# Altium schematic symbol library axsem_v4-24.SCHLIB: 23 symbols
Pins are listed as number, name and electrical type; pins without a type are passive.

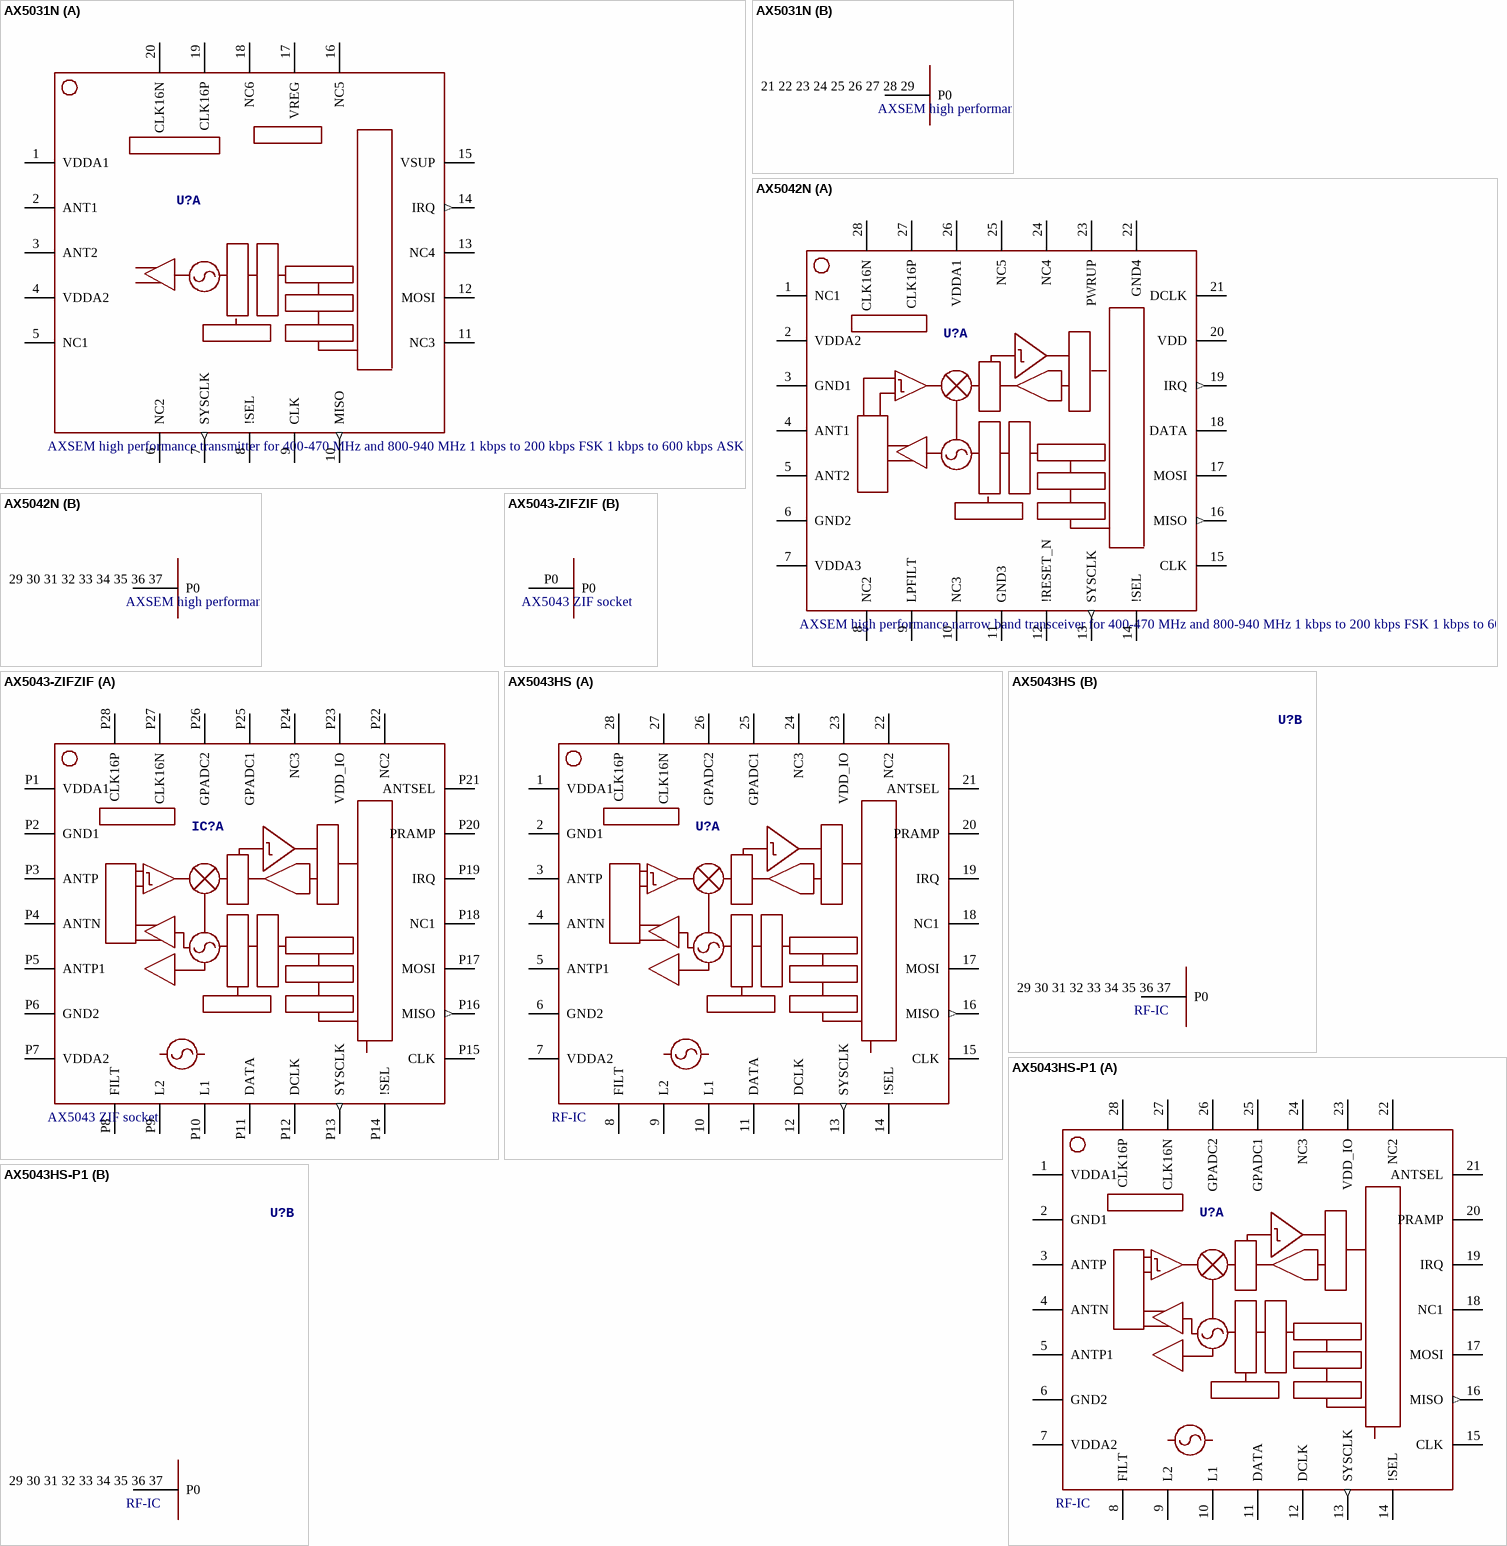
[diagram p0: symbols AX5031N to AX5043HS-P1]

## AX5031N
designator U?, comment AXSEM high performance transmitter for 400-470 MHz and 800-940 MHz 1 kbps to 200 kbps FSK 1 kbps to 600 kbps ASK & PSK 14 dBm Pout @ 868 MHz 16 dBm Pout @ 433 MHz Wire mode Raw mode HDLC mode 256 bit FIFO
footprint QFN20
part A pins: 1 VDDA1 (power), 2 ANT1, 3 ANT2, 4 VDDA2 (power), 5 NC1, 6 NC2, 7 SYSCLK (out), 8 !SEL, 9 CLK, 10 MISO (out), 11 NC3, 12 MOSI, 13 NC4, 14 IRQ (out), 15 VSUP (power), 16 NC5, 17 VREG (power), 18 NC6, 19 CLK16P, 20 CLK16N
part B pins: 21 22 23 24 25 26 27 28 29 P0 (power)

## AX5042N
designator U?, comment AXSEM high performance narrow band transceiver for 400-470 MHz and 800-940 MHz 1 kbps to 200 kbps FSK 1 kbps to 600 kbps ASK & PSK 10 dBm Pout @ 868 MHz 12 dBm Pout @ 433 MHz Wire mode Raw mode HDLC mode 24 bit FIFO
footprint QFN28
part A pins: 1 NC1, 2 VDDA2 (power), 3 GND1 (power), 4 ANT1, 5 ANT2, 6 GND2 (power), 7 VDDA3 (power), 8 NC2, 9 LPFILT, 10 NC3, 11 GND3 (power), 12 !RESET_N, 13 SYSCLK (out), 14 !SEL, 15 CLK, 16 MISO (out), 17 MOSI, 18 DATA, 19 IRQ (out), 20 VDD (power), 21 DCLK, 22 GND4 (power), 23 PWRUP, 24 NC4, 25 NC5, 26 VDDA1 (power), 27 CLK16P, 28 CLK16N
part B pins: 29 30 31 32 33 34 35 36 37 P0 (power)

## AX5043-ZIFZIF
designator IC?, comment AX5043 ZIF socket
footprint QFN28-ZIF
part A pins: P1 VDDA1 (power), P2 GND1 (power), P3 ANTP, P4 ANTN, P5 ANTP1, P6 GND2 (power), P7 VDDA2 (power), P8 FILT, P9 L2, P10 L1, P11 DATA, P12 DCLK, P13 SYSCLK (out), P14 !SEL, P15 CLK, P16 MISO (out), P17 MOSI, P18 NC1, P19 IRQ, P20 PRAMP, P21 ANTSEL, P22 NC2, P23 VDD_IO (power), P24 NC3, P25 GPADC1, P26 GPADC2 (power), P27 CLK16N, P28 CLK16P
part B pins: P0 (power)

## AX5043HS
designator U?, comment RF-IC
footprint QFN28-H
part A pins: 1 VDDA1 (power), 2 GND1 (power), 3 ANTP, 4 ANTN, 5 ANTP1, 6 GND2 (power), 7 VDDA2 (power), 8 FILT, 9 L2, 10 L1, 11 DATA, 12 DCLK, 13 SYSCLK (out), 14 !SEL, 15 CLK, 16 MISO (out), 17 MOSI, 18 NC1, 19 IRQ, 20 PRAMP, 21 ANTSEL, 22 NC2, 23 VDD_IO (power), 24 NC3, 25 GPADC1, 26 GPADC2 (power), 27 CLK16N, 28 CLK16P
part B pins: 29 30 31 32 33 34 35 36 37 P0 (power)

## AX5043HS-P1
designator U?, comment RF-IC
footprint QFN28-H-P1
part A pins: 1 VDDA1 (power), 2 GND1 (power), 3 ANTP, 4 ANTN, 5 ANTP1, 6 GND2 (power), 7 VDDA2 (power), 8 FILT, 9 L2, 10 L1, 11 DATA, 12 DCLK, 13 SYSCLK (out), 14 !SEL, 15 CLK, 16 MISO (out), 17 MOSI, 18 NC1, 19 IRQ, 20 PRAMP, 21 ANTSEL, 22 NC2, 23 VDD_IO (power), 24 NC3, 25 GPADC1, 26 GPADC2 (power), 27 CLK16N, 28 CLK16P
part B pins: 29 30 31 32 33 34 35 36 37 P0 (power)

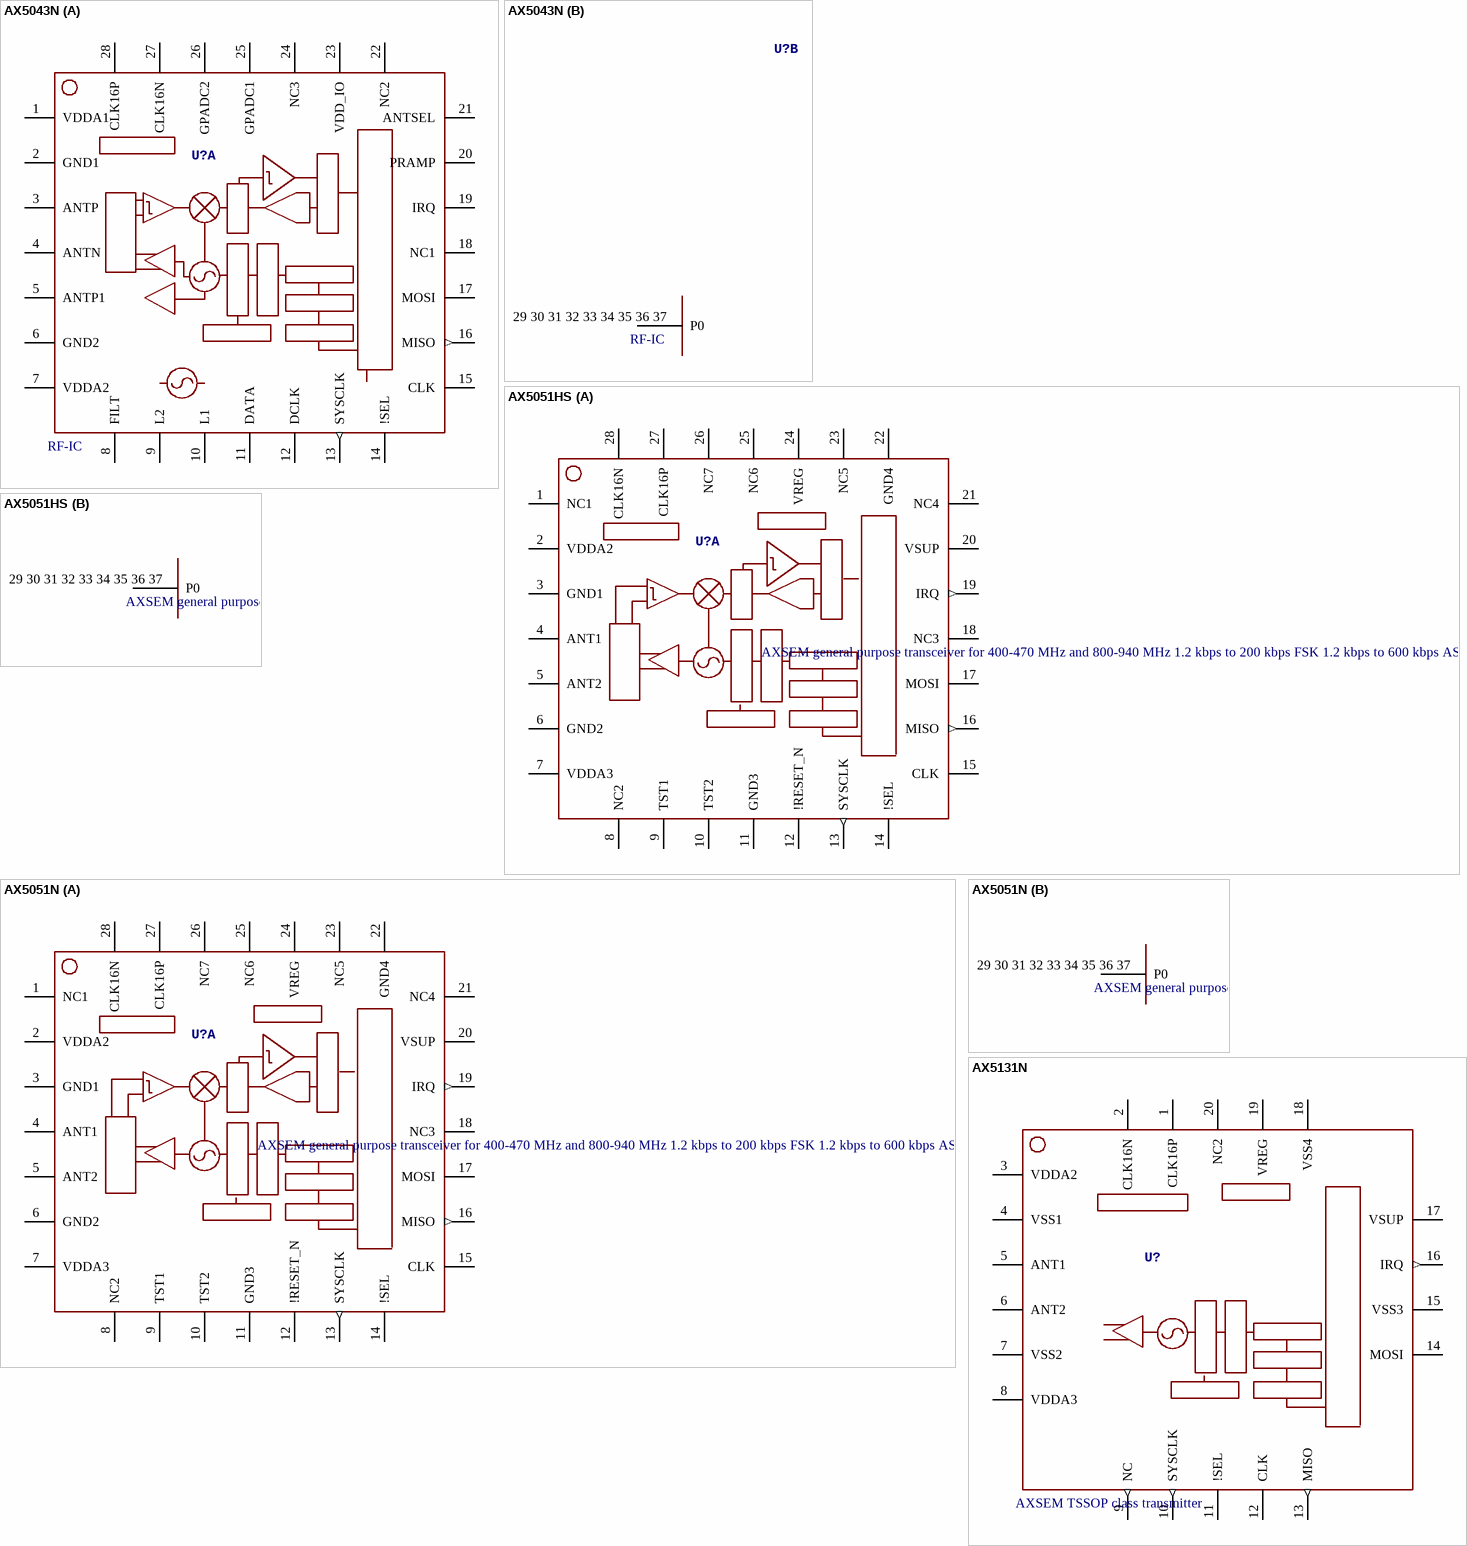
[diagram p1: symbols AX5043N to AX5131N]

## AX5043N
designator U?, comment RF-IC
footprint QFN28
part A pins: 1 VDDA1 (power), 2 GND1 (power), 3 ANTP, 4 ANTN, 5 ANTP1, 6 GND2 (power), 7 VDDA2 (power), 8 FILT, 9 L2, 10 L1, 11 DATA, 12 DCLK, 13 SYSCLK (out), 14 !SEL, 15 CLK, 16 MISO (out), 17 MOSI, 18 NC1, 19 IRQ, 20 PRAMP, 21 ANTSEL, 22 NC2, 23 VDD_IO (power), 24 NC3, 25 GPADC1, 26 GPADC2 (power), 27 CLK16N, 28 CLK16P
part B pins: 29 30 31 32 33 34 35 36 37 P0 (power)

## AX5051HS
designator U?, comment AXSEM general purpose transceiver for 400-470 MHz and 800-940 MHz 1.2 kbps to 200 kbps FSK 1.2 kbps to 600 kbps ASK & PSK 14 dBm Pout @ 868 MHz 16 dBm Pout @ 433 MHz Wire mode Raw mode HDLC mode 32 bit FIFO
footprint QFN28-H
part A pins: 1 NC1, 2 VDDA2 (power), 3 GND1 (power), 4 ANT1, 5 ANT2, 6 GND2 (power), 7 VDDA3 (power), 8 NC2, 9 TST1, 10 TST2, 11 GND3 (power), 12 !RESET_N, 13 SYSCLK (out), 14 !SEL, 15 CLK, 16 MISO (out), 17 MOSI, 18 NC3, 19 IRQ (out), 20 VSUP (power), 21 NC4, 22 GND4 (power), 23 NC5, 24 VREG (power), 25 NC6, 26 NC7, 27 CLK16P, 28 CLK16N
part B pins: 29 30 31 32 33 34 35 36 37 P0 (power)

## AX5051N
designator U?, comment AXSEM general purpose transceiver for 400-470 MHz and 800-940 MHz 1.2 kbps to 200 kbps FSK 1.2 kbps to 600 kbps ASK & PSK 14 dBm Pout @ 868 MHz 16 dBm Pout @ 433 MHz Wire mode Raw mode HDLC mode 32 bit FIFO
footprint QFN28
part A pins: 1 NC1, 2 VDDA2 (power), 3 GND1 (power), 4 ANT1, 5 ANT2, 6 GND2 (power), 7 VDDA3 (power), 8 NC2, 9 TST1, 10 TST2, 11 GND3 (power), 12 !RESET_N, 13 SYSCLK (out), 14 !SEL, 15 CLK, 16 MISO (out), 17 MOSI, 18 NC3, 19 IRQ (out), 20 VSUP (power), 21 NC4, 22 GND4 (power), 23 NC5, 24 VREG (power), 25 NC6, 26 NC7, 27 CLK16P, 28 CLK16N
part B pins: 29 30 31 32 33 34 35 36 37 P0 (power)

## AX5131N
designator U?, comment AXSEM TSSOP class transmitter
footprint TSSOP20
pins: 1 CLK16P, 2 CLK16N, 3 VDDA2 (power), 4 VSS1 (power), 5 ANT1, 6 ANT2, 7 VSS2 (power), 8 VDDA3 (power), 9 NC (out), 10 SYSCLK (out), 11 !SEL, 12 CLK, 13 MISO (out), 14 MOSI, 15 VSS3, 16 IRQ (out), 17 VSUP (power), 18 VSS4, 19 VREG (power), 20 NC2 (power)

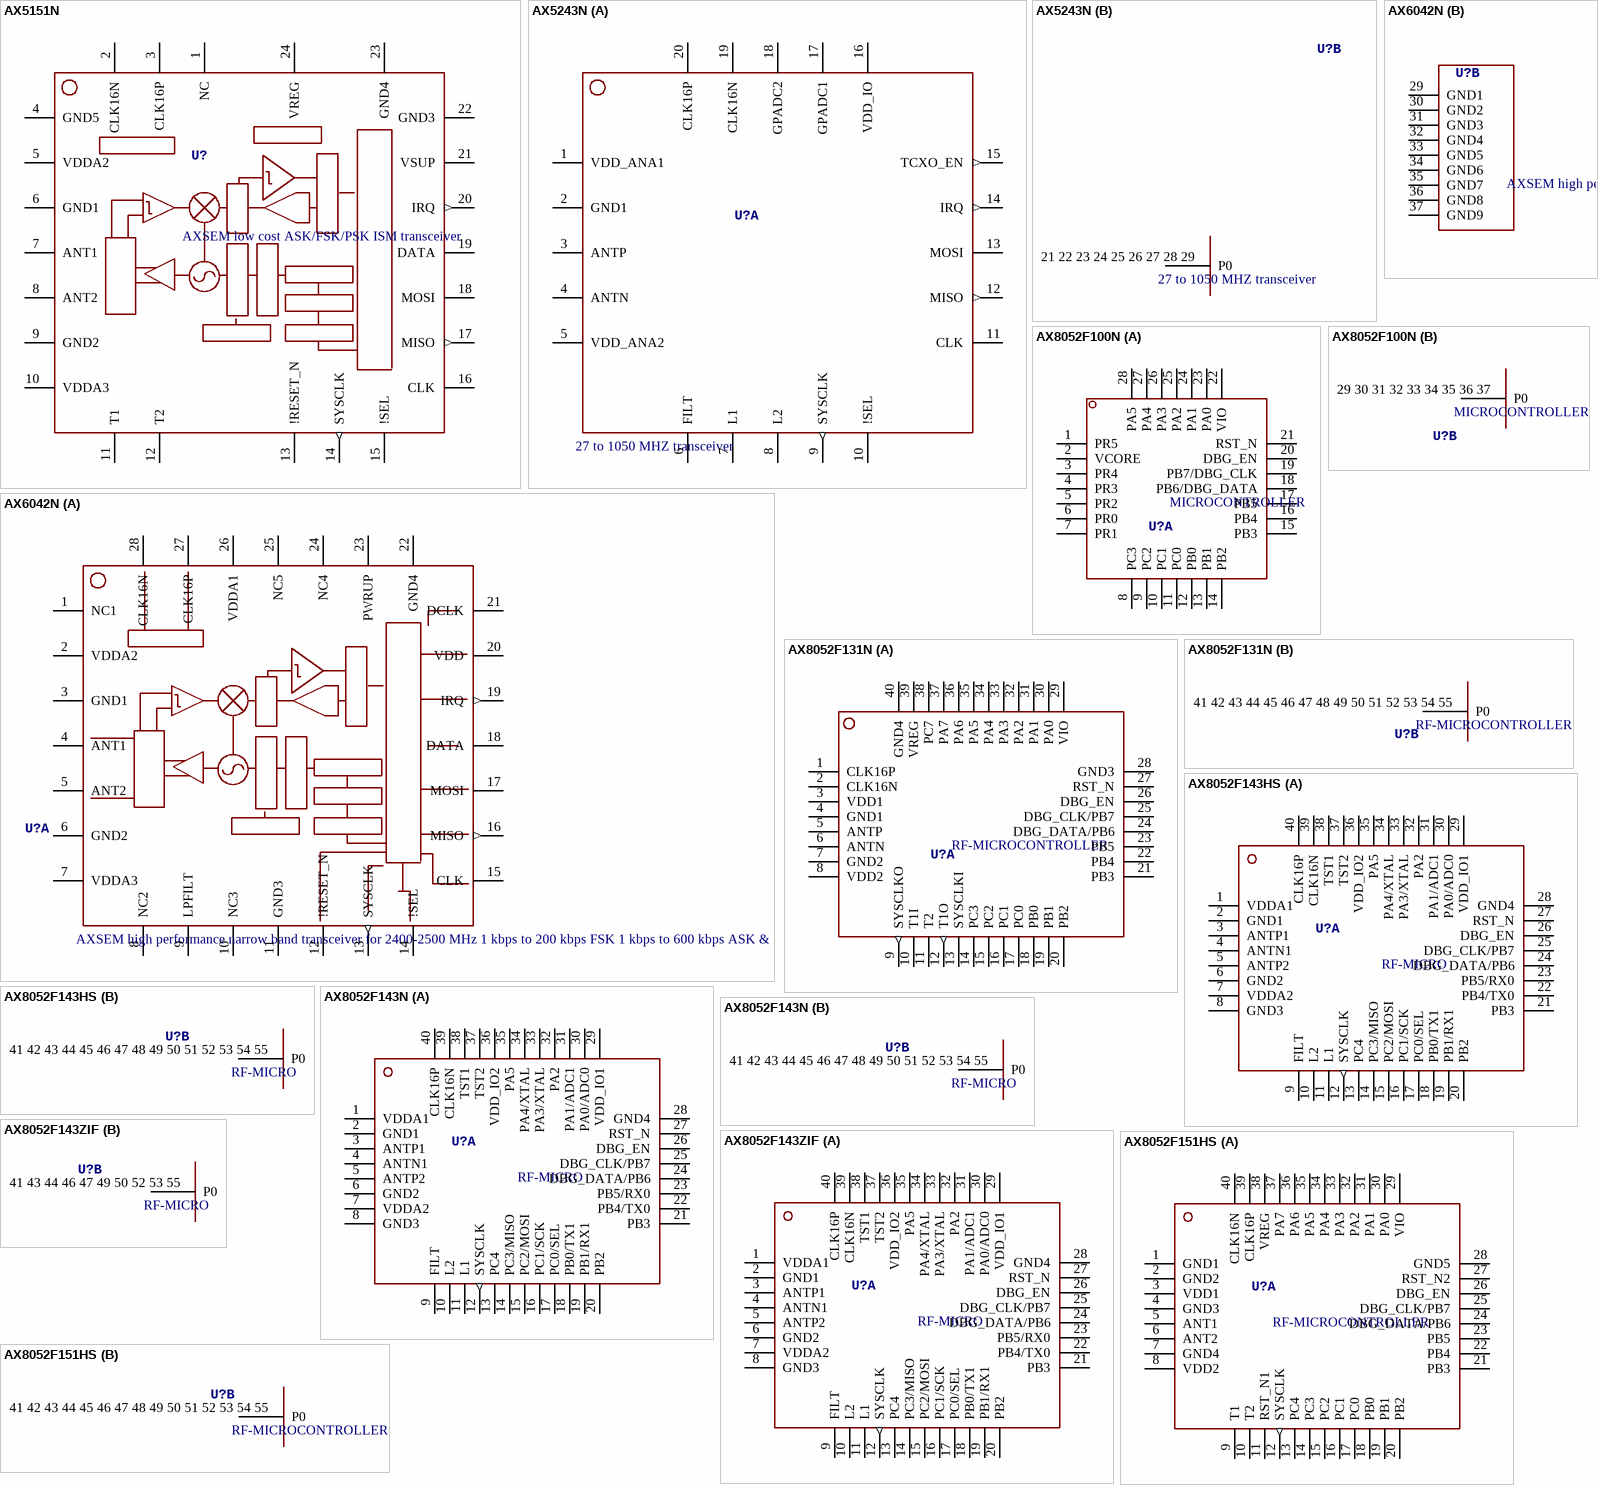
[diagram p2: symbols AX5151N to AX8052F151HS]

## AX5151N
designator U?, comment AXSEM low cost ASK/FSK/PSK ISM transceiver
footprint TSSOP24
pins: 1 NC, 2 CLK16N, 3 CLK16P, 4 GND5 (power), 5 VDDA2 (power), 6 GND1 (power), 7 ANT1, 8 ANT2, 9 GND2 (power), 10 VDDA3 (power), 11 T1, 12 T2, 13 !RESET_N, 14 SYSCLK (out), 15 !SEL, 16 CLK, 17 MISO (out), 18 MOSI, 19 DATA, 20 IRQ (out), 21 VSUP (power), 22 GND3, 23 GND4 (power), 24 VREG (power)

## AX5243N
designator U?, comment 27 to 1050 MHZ transceiver
footprint QFN20
part A pins: 1 VDD_ANA1 (power), 2 GND1 (power), 3 ANTP, 4 ANTN, 5 VDD_ANA2 (power), 6 FILT, 7 L1, 8 L2, 9 SYSCLK (out), 10 !SEL, 11 CLK, 12 MISO (out), 13 MOSI, 14 IRQ (out), 15 TCXO_EN (out), 16 VDD_IO (power), 17 GPADC1, 18 GPADC2, 19 CLK16N, 20 CLK16P
part B pins: 21 22 23 24 25 26 27 28 29 P0 (power)

## AX6042N
designator U?, comment AXSEM high performance narrow band transceiver for 2400-2500 MHz 1 kbps to 200 kbps FSK 1 kbps to 600 kbps ASK & PSK 5 dBm Pout @ 868 MHz Wire mode Raw mode HDLC mode 24 bit FIFO
footprint QFN28
part A pins: 1 NC1, 2 VDDA2 (power), 3 GND1 (power), 4 ANT1, 5 ANT2, 6 GND2 (power), 7 VDDA3 (power), 8 NC2, 9 LPFILT, 10 NC3, 11 GND3 (power), 12 !RESET_N, 13 SYSCLK (out), 14 !SEL, 15 CLK, 16 MISO (out), 17 MOSI, 18 DATA, 19 IRQ (out), 20 VDD (power), 21 DCLK, 22 GND4 (power), 23 PWRUP, 24 NC4, 25 NC5, 26 VDDA1 (power), 27 CLK16P, 28 CLK16N
part B pins: 29 GND1 (power), 30 GND2 (power), 31 GND3 (power), 32 GND4 (power), 33 GND5 (power), 34 GND6 (power), 35 GND7 (power), 36 GND8 (power), 37 GND9 (power)

## AX8052F100N
designator U?, comment MICROCONTROLLER
footprint QFN28
part A pins: 1 PR5, 2 VCORE (power), 3 PR4, 4 PR3, 5 PR2, 6 PR0, 7 PR1, 8 PC3, 9 PC2, 10 PC1, 11 PC0, 12 PB0, 13 PB1, 14 PB2, 15 PB3, 16 PB4, 17 PB5, 18 PB6/DBG_DATA, 19 PB7/DBG_CLK, 20 DBG_EN, 21 RST_N, 22 VIO (power), 23 PA0, 24 PA1, 25 PA2, 26 PA3, 27 PA4, 28 PA5
part B pins: 29 30 31 32 33 34 35 36 37 P0 (power)

## AX8052F131N
designator U?, comment RF-MICROCONTROLLER
footprint QFN40
part A pins: 1 CLK16P, 2 CLK16N, 3 VDD1 (power), 4 GND1 (power), 5 ANTP, 6 ANTN, 7 GND2 (power), 8 VDD2 (power), 9 SYSCLKO (out), 10 T1I, 11 T2, 12 T1O (out), 13 SYSCLKI, 14 PC3, 15 PC2, 16 PC1, 17 PC0, 18 PB0, 19 PB1, 20 PB2, 21 PB3, 22 PB4, 23 PB5, 24 DBG_DATA/PB6, 25 DBG_CLK/PB7, 26 DBG_EN, 27 RST_N, 28 GND3 (power), 29 VIO (power), 30 PA0, 31 PA1, 32 PA2, 33 PA3, 34 PA4, 35 PA5, 36 PA6, 37 PA7, 38 PC7, 39 VREG, 40 GND4
part B pins: 41 42 43 44 45 46 47 48 49 50 51 52 53 54 55 P0 (power)

## AX8052F143HS
designator U?, comment RF-MICRO
footprint QFN40-H
part A pins: 1 VDDA1 (power), 2 GND1 (power), 3 ANTP1, 4 ANTN1, 5 ANTP2, 6 GND2 (power), 7 VDDA2 (power), 8 GND3 (power), 9 FILT, 10 L2, 11 L1, 12 SYSCLK (out), 13 PC4, 14 PC3/MISO, 15 PC2/MOSI, 16 PC1/SCK, 17 PC0/SEL, 18 PB0/TX1, 19 PB1/RX1, 20 PB2, 21 PB3, 22 PB4/TX0, 23 PB5/RX0, 24 DBG_DATA/PB6, 25 DBG_CLK/PB7, 26 DBG_EN, 27 RST_N, 28 GND4 (power), 29 VDD_IO1 (power), 30 PA0/ADC0, 31 PA1/ADC1, 32 PA2, 33 PA3/XTAL, 34 PA4/XTAL, 35 PA5, 36 VDD_IO2, 37 TST2, 38 TST1, 39 CLK16N, 40 CLK16P
part B pins: 41 42 43 44 45 46 47 48 49 50 51 52 53 54 55 P0 (power)

## AX8052F143N
designator U?, comment RF-MICRO
footprint QFN40
part A pins: 1 VDDA1 (power), 2 GND1 (power), 3 ANTP1, 4 ANTN1, 5 ANTP2, 6 GND2 (power), 7 VDDA2 (power), 8 GND3 (power), 9 FILT, 10 L2, 11 L1, 12 SYSCLK (out), 13 PC4, 14 PC3/MISO, 15 PC2/MOSI, 16 PC1/SCK, 17 PC0/SEL, 18 PB0/TX1, 19 PB1/RX1, 20 PB2, 21 PB3, 22 PB4/TX0, 23 PB5/RX0, 24 DBG_DATA/PB6, 25 DBG_CLK/PB7, 26 DBG_EN, 27 RST_N, 28 GND4 (power), 29 VDD_IO1 (power), 30 PA0/ADC0, 31 PA1/ADC1, 32 PA2, 33 PA3/XTAL, 34 PA4/XTAL, 35 PA5, 36 VDD_IO2, 37 TST2, 38 TST1, 39 CLK16N, 40 CLK16P
part B pins: 41 42 43 44 45 46 47 48 49 50 51 52 53 54 55 P0 (power)

## AX8052F143ZIF
designator U?, comment RF-MICRO
footprint QFN40-ZIF
part A pins: 1 VDDA1 (power), 2 GND1 (power), 3 ANTP1, 4 ANTN1, 5 ANTP2, 6 GND2 (power), 7 VDDA2 (power), 8 GND3 (power), 9 FILT, 10 L2, 11 L1, 12 SYSCLK (out), 13 PC4, 14 PC3/MISO, 15 PC2/MOSI, 16 PC1/SCK, 17 PC0/SEL, 18 PB0/TX1, 19 PB1/RX1, 20 PB2, 21 PB3, 22 PB4/TX0, 23 PB5/RX0, 24 DBG_DATA/PB6, 25 DBG_CLK/PB7, 26 DBG_EN, 27 RST_N, 28 GND4 (power), 29 VDD_IO1 (power), 30 PA0/ADC0, 31 PA1/ADC1, 32 PA2, 33 PA3/XTAL, 34 PA4/XTAL, 35 PA5, 36 VDD_IO2, 37 TST2, 38 TST1, 39 CLK16N, 40 CLK16P
part B pins: 41 43 44 46 47 49 50 52 53 55 P0 (power)

## AX8052F151HS
designator U?, comment RF-MICROCONTROLLER
footprint QFN40-H
part A pins: 1 GND1 (power), 2 GND2 (power), 3 VDD1 (power), 4 GND3 (power), 5 ANT1, 6 ANT2, 7 GND4 (power), 8 VDD2 (power), 9 T1, 10 T2, 11 RST_N1, 12 SYSCLK (out), 13 PC4, 14 PC3, 15 PC2, 16 PC1, 17 PC0, 18 PB0, 19 PB1, 20 PB2, 21 PB3, 22 PB4, 23 PB5, 24 DBG_DATA/PB6, 25 DBG_CLK/PB7, 26 DBG_EN, 27 RST_N2, 28 GND5 (power), 29 VIO (power), 30 PA0, 31 PA1, 32 PA2, 33 PA3, 34 PA4, 35 PA5, 36 PA6, 37 PA7, 38 VREG (power), 39 CLK16P, 40 CLK16N
part B pins: 41 42 43 44 45 46 47 48 49 50 51 52 53 54 55 P0 (power)

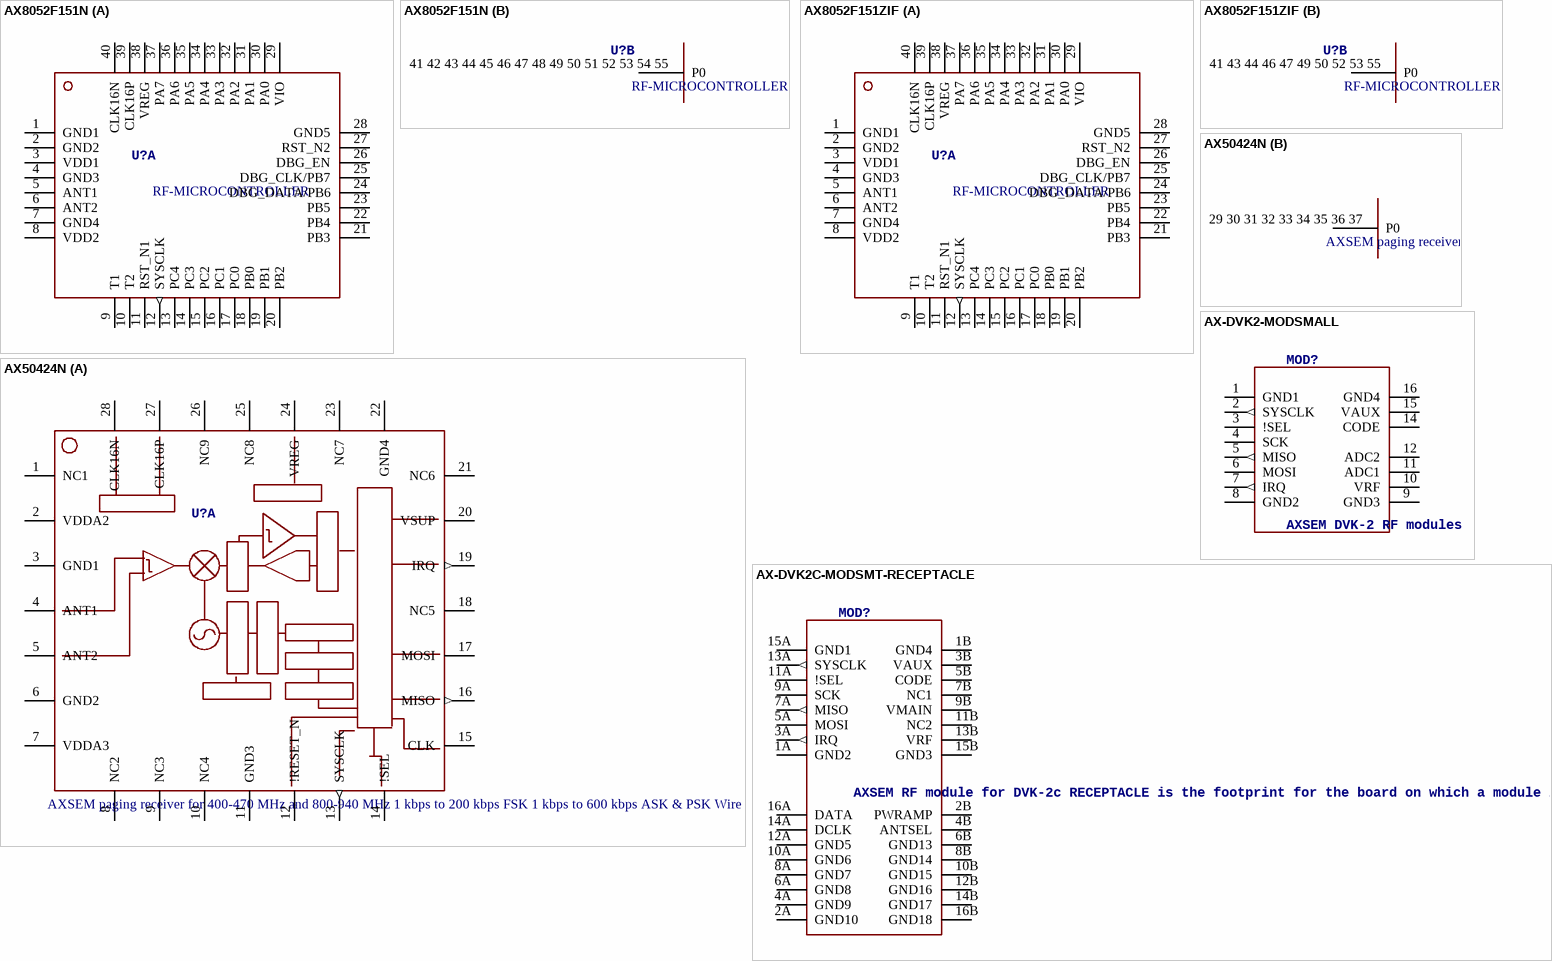
[diagram p3: symbols AX8052F151N to AX-DVK2C-MODSMT-RECEPTACLE]

## AX8052F151N
designator U?, comment RF-MICROCONTROLLER
footprint QFN40
part A pins: 1 GND1 (power), 2 GND2 (power), 3 VDD1 (power), 4 GND3 (power), 5 ANT1, 6 ANT2, 7 GND4 (power), 8 VDD2 (power), 9 T1, 10 T2, 11 RST_N1, 12 SYSCLK (out), 13 PC4, 14 PC3, 15 PC2, 16 PC1, 17 PC0, 18 PB0, 19 PB1, 20 PB2, 21 PB3, 22 PB4, 23 PB5, 24 DBG_DATA/PB6, 25 DBG_CLK/PB7, 26 DBG_EN, 27 RST_N2, 28 GND5 (power), 29 VIO (power), 30 PA0, 31 PA1, 32 PA2, 33 PA3, 34 PA4, 35 PA5, 36 PA6, 37 PA7, 38 VREG (power), 39 CLK16P, 40 CLK16N
part B pins: 41 42 43 44 45 46 47 48 49 50 51 52 53 54 55 P0 (power)

## AX8052F151ZIF
designator U?, comment RF-MICROCONTROLLER
footprint QFN40-ZIF
part A pins: 1 GND1 (power), 2 GND2 (power), 3 VDD1 (power), 4 GND3 (power), 5 ANT1, 6 ANT2, 7 GND4 (power), 8 VDD2 (power), 9 T1, 10 T2, 11 RST_N1, 12 SYSCLK (out), 13 PC4, 14 PC3, 15 PC2, 16 PC1, 17 PC0, 18 PB0, 19 PB1, 20 PB2, 21 PB3, 22 PB4, 23 PB5, 24 DBG_DATA/PB6, 25 DBG_CLK/PB7, 26 DBG_EN, 27 RST_N2, 28 GND5 (power), 29 VIO (power), 30 PA0, 31 PA1, 32 PA2, 33 PA3, 34 PA4, 35 PA5, 36 PA6, 37 PA7, 38 VREG (power), 39 CLK16P, 40 CLK16N
part B pins: 41 43 44 46 47 49 50 52 53 55 P0 (power)

## AX50424N
designator U?, comment AXSEM paging receiver for 400-470 MHz and 800-940 MHz 1 kbps to 200 kbps FSK 1 kbps to 600 kbps ASK & PSK Wire mode Raw mode HDLC mode 128 bit FIFO
footprint QFN28
part A pins: 1 NC1, 2 VDDA2 (power), 3 GND1 (power), 4 ANT1, 5 ANT2, 6 GND2 (power), 7 VDDA3 (power), 8 NC2, 9 NC3, 10 NC4, 11 GND3 (power), 12 !RESET_N, 13 SYSCLK (out), 14 !SEL, 15 CLK, 16 MISO (out), 17 MOSI, 18 NC5, 19 IRQ (out), 20 VSUP (power), 21 NC6, 22 GND4 (power), 23 NC7, 24 VREG (power), 25 NC8, 26 NC9 (power), 27 CLK16P, 28 CLK16N
part B pins: 29 30 31 32 33 34 35 36 37 P0 (power)

## AX-DVK2-MODSMALL
designator MOD?, comment AXSEM DVK-2 RF modules
footprint DVK2-MOD-S
pins: 1 GND1 (power), 2 SYSCLK (out), 3 !SEL, 4 SCK, 5 MISO (out), 6 MOSI, 7 IRQ (out), 8 GND2 (power), 9 GND3 (power), 10 VRF (power), 11 ADC1, 12 ADC2, 14 CODE, 15 VAUX (power), 16 GND4 (power)

## AX-DVK2C-MODSMT-RECEPTACLE
designator MOD?, comment AXSEM RF module for DVK-2c RECEPTACLE is the footprint for the board on which a module is going to be plugged on
footprint DVK2C-MOD-SMT-RECEPTACLE
pins: 1A GND2 (power), 1B GND4 (power), 2A GND10 (power), 2B PWRAMP (power), 3A IRQ (out), 3B VAUX (power), 4A GND9 (power), 4B ANTSEL (power), 5A MOSI, 5B CODE, 6A GND8 (power), 6B GND13 (power), 7A MISO (out), 7B NC1, 8A GND7 (power), 8B GND14 (power), 9A SCK, 9B VMAIN (power), 10A GND6 (power), 10B GND15 (power), 11A !SEL, 11B NC2, 12A GND5 (power), 12B GND16 (power), 13A SYSCLK (out), 13B VRF (power), 14A DCLK (power), 14B GND17 (power), 15A GND1 (power), 15B GND3 (power), 16A DATA (power), 16B GND18 (power)